# Altium schematic symbol library ATTiny84.SchLib: 1 symbol
Pins are listed as number, name and electrical type; pins without a type are passive.

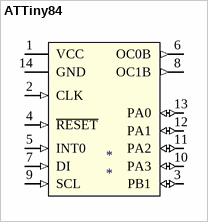
[diagram p0: symbol ATTiny84]

## ATTiny84
designator *
footprint DIP14
pins: 1 VCC (power), 2 CLK (in), 3 PB1 (io), 4 ~{RESET} (in), 5 INT0 (in), 6 OC0B (out), 7 DI (in), 8 OC1B (out), 9 SCL (in), 10 PA3 (io), 11 PA2 (io), 12 PA1 (io), 13 PA0 (io), 14 GND (power)